# Altium integrated library Analog Devices Data Converters Digital-to-Analog Converters.IntLib: 2231 symbols (part 99 of 181)
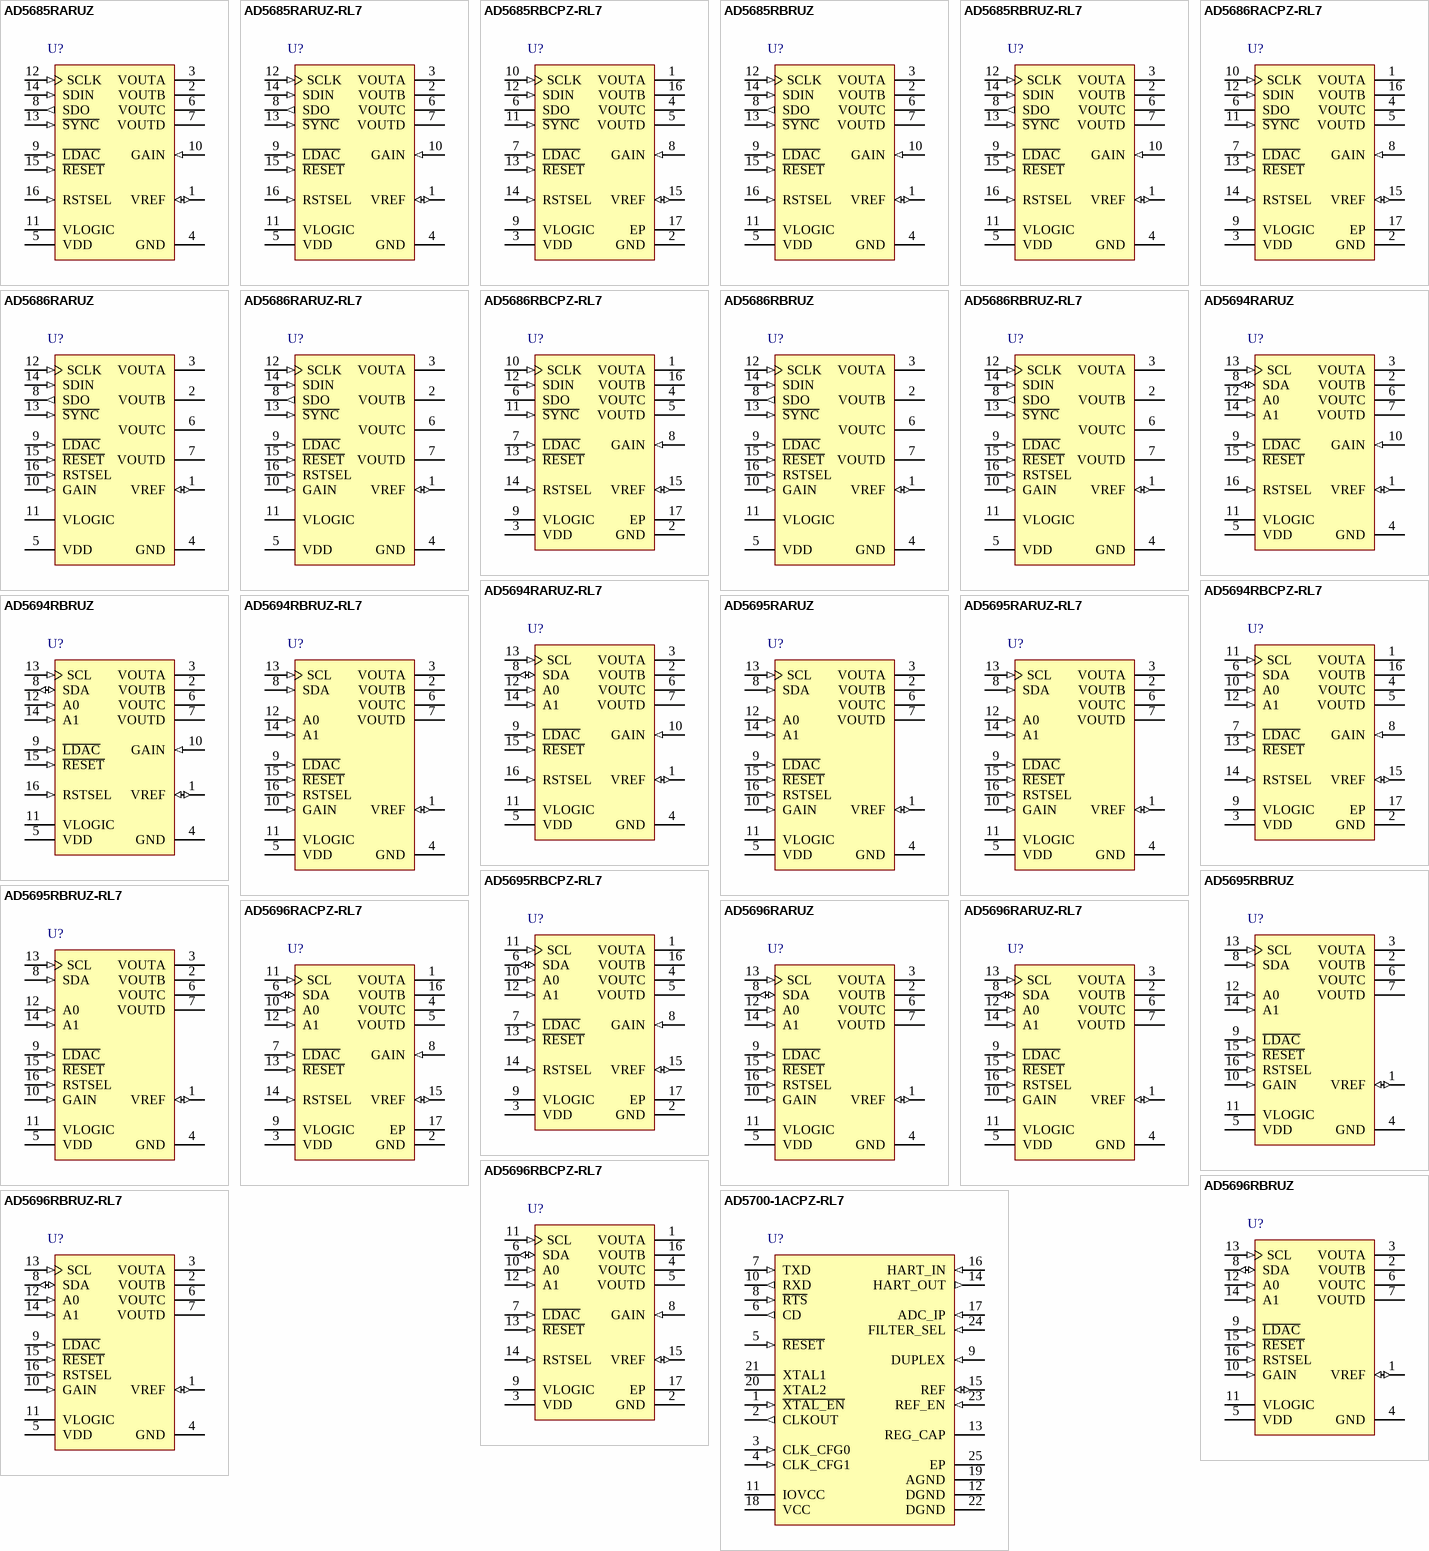
[diagram p212: symbols AD5685RARUZ to AD5700-1ACPZ-RL7]

## AD5685RBCPZ-RL7
designator U?
Quad 14-Bit nanoDAC+ with SPI Interface and 2 ppm/degC On-Chip Reference, -40 to +105 degC, CP-16-22, Pb-Free, Reel; Generic Part Number: AD5685R; Manufacturer: Analog Devices; PartNumber: AD5685RBCPZ-RL7; # DAC Outputs: 4; Max V+: 5.5V; Resolution (Bits): 14; Settling Time: 5µs; Single Supply: Yes; DatasheetVersion: Rev.0; PackageVersion: 111808-A; PackageReference: CP-16-22; PackageDescription: 16-Lead Lead Frame Chip Scale Package [LFCSP_WQ] 3 x 3 mm Body, Very Very Thin Quad; Supplier 1: Digi-Key; Supplier Part Number 1: AD5685RBCPZ-RL7TR-ND; Supplier 2: Digi-Key; Supplier Part Number 2: AD5685RBCPZ-RL7CT-ND; Supplier 3: Digi-Key; Supplier Part Number 3: AD5685RBCPZ-RL7DKR-ND; Supplier 4: Mouser; Supplier Part Number 4: 584-AD5685RBCPZ-R7; Packing: Reel; RoHS: Y; Mounting Technology: Surface Mount; Code_JEDEC: MO-220-WEED; ComponentLink1Description: Manufacturer URL; ComponentLink1URL: http://www.analog.com/en/index.html; ComponentLink2Description: Datasheet; ComponentLink2URL: http://www.analog.com/static/imported-files/data_sheets/AD5686R_AD5685R_AD5684R.pdf; ComponentLink3Description: Package Specification; ComponentLink3URL: http://www.analog.com/static/imported-files/packages/PKG_PDF/LFCSP(CP)/CP-16/CP_16_22.pdf; ComponentLink4Description: Product URL; ComponentLink4URL: http://www.analog.com/en/digital-to-analog-converters/da-converters/ad5685r/products/product.html
footprint CP-16-22_N (QFN, 16-Leads, Body 3x3mm, Pitch 0.5mm, Thermal Pad 1.75x1.75mm, IPC Medium Density)
footprint CP-16-22_L (QFN, 16-Leads, Body 3x3mm, Pitch 0.5mm, Thermal Pad 1.75x1.75mm, IPC High Density)
footprint CP-16-22_M (QFN, 16-Leads, Body 3x3mm, Pitch 0.5mm, Thermal Pad 1.75x1.75mm, IPC Low Density)
pins: 1 VOUTA (hiz) "Analog Output Voltage from DAC A. The output amplifier has rail-to-rail operation.", 2 GND (power) "Ground Reference Point for All Circuitry on the Part.", 3 VDD (power) "?Power Supply Input. These parts can be operated from 2.7 V to 5.5 V, and the supply should bedecoupled with a 10 uF capacitor in parallel with a 0.1 uF capacitor to GND.", 4 VOUTC (hiz) "Analog Output Voltage from DAC C. The output amplifier has rail-to-rail operation.", 5 VOUTD (hiz) "Analog Output Voltage from DAC D. The output amplifier has rail-to-rail operation.", 6 SDO (hiz) "Serial Data Output. Can be used to daisy-chain a number of AD5685R devices together or can be used for readback. The serial data is transferred on the rising edge of SCLK and is valid on the falling edge of the clock.", 7 ~{LDAC} (in) "L\D\A\C\ can be operated in two modes, asynchronously and synchronously. Pulsing this pin low allows any or all DAC registers to be updated if the input registers have new data. This allows all DAC outputs to simultaneously (See Datasheet)", 8 GAIN (in) "?Span Set Pin. When this pin is tied to GND, all four DAC outputs have a span from 0 V to VREF. If thispin is tied to VDD, all four DACs output a span of 0 V to 2 x VREF.", 9 VLOGIC (power) "Digital Power Supply. Voltage ranges from 1.8 V to 5.5 V.", 10 SCLK (in) "Serial Clock Input. Data is clocked into the input shift register on the falling edge of the serial clock input. Data can be transferred at rates of up to 50 MHz.", 11 ~{SYNC} (in) "Active Low Control Input. This is the frame synchronization signal for the input data. When S\Y\N\C\ goes low, data is transferred in on the falling edges of the next 24 clocks.", 12 SDIN (in) "Serial Data Input. This device has a 24-bit input shift register. Data is clocked into the register on the falling edge of the serial clock input.", 13 ~{RESET} (in) "Asynchronous Reset Input. The R\E\S\E\T\ input is falling edge sensitive. When R\E\S\E\T\ is low, all L\D\A\C\ pulses are ignored. When R\E\S\E\T\ is activated, the input register and the DAC register are updated with zero (See Datasheet)", 14 RSTSEL (in) "Power-On Reset Pin. Tying this pin to GND powers up all four DACs to zero scale. Tying this pin to VDD powers up all four DACs to midscale.", 15 VREF (io) "Reference Voltage. The AD5685R have a common reference pin. When using the internal reference, this is the reference output pin. When using an external reference, this is the reference input pin. The default for this pin is (See Datasheet)", 16 VOUTB (hiz) "Analog Output Voltage from DAC B. The output amplifier has rail-to-rail operation.", 17 EP (power) "Exposed Pad. The exposed pad must be tied to GND."

## AD5685RBRUZ
designator U?
Quad 14-Bit nanoDAC+ with SPI Interface and 2 ppm/degC On-Chip Reference, -40 to +105 degC, RU-16, Pb-Free, Tube; Generic Part Number: AD5685R; Manufacturer: Analog Devices; PartNumber: AD5685RBRUZ; # DAC Outputs: 4; Max V+: 5.5V; Resolution (Bits): 14; Settling Time: 5µs; Single Supply: Yes; DatasheetVersion: Rev.0; PackageVersion: Nov-2002; PackageReference: RU-16; PackageDescription: 16-Lead Thin Shrink Small Outline Package [TSSOP]; Supplier 1: Digi-Key; Supplier Part Number 1: AD5685RBRUZ-ND; Supplier 2: Farnell; Supplier Part Number 2: 2112660; Supplier 3: Newark; Supplier Part Number 3: 94T0030; Supplier 4: Mouser; Supplier Part Number 4: 584-AD5685RBRUZ; Packing: Tube; RoHS: Y; Mounting Technology: Surface Mount; Code_JEDEC: MO-153-AB; ComponentLink1Description: Manufacturer URL; ComponentLink1URL: http://www.analog.com/en/index.html; ComponentLink2Description: Datasheet; ComponentLink2URL: http://www.analog.com/static/imported-files/data_sheets/AD5686R_AD5685R_AD5684R.pdf; ComponentLink3Description: Package Specification; ComponentLink3URL: http://www.analog.com/static/imported-files/packages/36244347913743854010197452789RU16.pdf; ComponentLink4Description: Product URL; ComponentLink4URL: http://www.analog.com/en/digital-to-analog-converters/da-converters/ad5685r/products/product.html
footprint RU-16_N (TSOP, 16-Leads, Body 5x4.4mm, Pitch 0.65mm, IPC Medium Density)
footprint RU-16_L (TSOP, 16-Leads, Body 5x4.4mm, Pitch 0.65mm, IPC High Density)
footprint RU-16_M (TSOP, 16-Leads, Body 5x4.4mm, Pitch 0.65mm, IPC Low Density)
pins: 1 VREF (io) "Reference Voltage. The AD5685R have a common reference pin. When using the internal reference, this is the reference output pin. When using an external reference, this is the reference input pin. The default for this pin is (See Datasheet)", 2 VOUTB (hiz) "Analog Output Voltage from DAC B. The output amplifier has rail-to-rail operation.", 3 VOUTA (hiz) "Analog Output Voltage from DAC A. The output amplifier has rail-to-rail operation.", 4 GND (power) "Ground Reference Point for All Circuitry on the Part.", 5 VDD (power) "Power Supply Input. These parts can be operated from 2.7 V to 5.5 V, and the supply should be decoupled with a 10 uF capacitor in parallel with a 0.1 uF capacitor to GND.", 6 VOUTC (hiz) "Analog Output Voltage from DAC C. The output amplifier has rail-to-rail operation.", 7 VOUTD (hiz) "Analog Output Voltage from DAC D. The output amplifier has rail-to-rail operation.", 8 SDO (out) "Serial Data Output. Can be used to daisy-chain a number of AD5686R/AD5685R/AD5684R devices together or can be used for readback. The serial data is transferred on the rising edge of SCLK and is valid on the falling edge of (See Datasheet)", 9 ~{LDAC} (in) "L\D\A\C\ can be operated in two modes, asynchronously and synchronously. Pulsing this pin low allows any or all DAC registers to be updated if the input registers have new data. This allows all DAC outputs to simultaneously (See Datasheet)", 10 GAIN (in) "Span Set Pin. When this pin is tied to GND, all four DAC outputs have a span from 0 V to VREF. If this pin is tied to VDD, all four DACs output a span of 0 V to 2 x VREF.", 11 VLOGIC (power) "Digital Power Supply. Voltage ranges from 1.8 V to 5.5 V.", 12 SCLK (in) "Serial Clock Input. Data is clocked into the input shift register on the falling edge of the serial clock input. Data can be transferred at rates of up to 50 MHz.", 13 ~{SYNC} (in) "Active Low Control Input. This is the frame synchronization signal for the input data. When S\Y\N\C\ goes low, data is transferred in on the falling edges of the next 24 clocks.", 14 SDIN (in) "Serial Data Input. This device has a 24-bit input shift register. Data is clocked into the register on the falling edge of the serial clock input.", 15 ~{RESET} (in) "Asynchronous Reset Input. The R\E\S\E\T\ input is falling edge sensitive. When R\E\S\E\T\ is low, all L\D\A\C\ pulses are ignored. When R\E\S\E\T\ is activated, the input register and the DAC register are updated with zero (See Datasheet)", 16 RSTSEL (in) "Power-On Reset Pin. Tying this pin to GND powers up all four DACs to zero scale. Tying this pin to VDD powers up all four DACs to midscale."

## AD5685RBRUZ-RL7
designator U?
Quad 14-Bit nanoDAC+ with SPI Interface and 2 ppm/degC On-Chip Reference, -40 to +105 degC, RU-16, Pb-Free, Reel; Generic Part Number: AD5685R; Manufacturer: Analog Devices; PartNumber: AD5685RBRUZ-RL7; # DAC Outputs: 4; Max V+: 5.5V; Resolution (Bits): 14; Settling Time: 5µs; Single Supply: Yes; DatasheetVersion: Rev.0; PackageVersion: Nov-2002; PackageReference: RU-16; PackageDescription: 16-Lead Thin Shrink Small Outline Package [TSSOP]; Supplier 1: Digi-Key; Supplier Part Number 1: AD5685RBRUZ-RL7-ND; Supplier 2: Mouser; Supplier Part Number 2: 584-AD5685RBRUZ-R7; Packing: Reel; RoHS: Y; Mounting Technology: Surface Mount; Code_JEDEC: MO-153-AB; ComponentLink1Description: Manufacturer URL; ComponentLink1URL: http://www.analog.com/en/index.html; ComponentLink2Description: Datasheet; ComponentLink2URL: http://www.analog.com/static/imported-files/data_sheets/AD5686R_AD5685R_AD5684R.pdf; ComponentLink3Description: Package Specification; ComponentLink3URL: http://www.analog.com/static/imported-files/packages/36244347913743854010197452789RU16.pdf; ComponentLink4Description: Product URL; ComponentLink4URL: http://www.analog.com/en/digital-to-analog-converters/da-converters/ad5685r/products/product.html
footprint RU-16_N (TSOP, 16-Leads, Body 5x4.4mm, Pitch 0.65mm, IPC Medium Density)
footprint RU-16_L (TSOP, 16-Leads, Body 5x4.4mm, Pitch 0.65mm, IPC High Density)
footprint RU-16_M (TSOP, 16-Leads, Body 5x4.4mm, Pitch 0.65mm, IPC Low Density)
pins: 1 VREF (io) "Reference Voltage. The AD5685R have a common reference pin. When using the internal reference, this is the reference output pin. When using an external reference, this is the reference input pin. The default for this pin is (See Datasheet)", 2 VOUTB (hiz) "Analog Output Voltage from DAC B. The output amplifier has rail-to-rail operation.", 3 VOUTA (hiz) "Analog Output Voltage from DAC A. The output amplifier has rail-to-rail operation.", 4 GND (power) "Ground Reference Point for All Circuitry on the Part.", 5 VDD (power) "Power Supply Input. These parts can be operated from 2.7 V to 5.5 V, and the supply should be decoupled with a 10 uF capacitor in parallel with a 0.1 uF capacitor to GND.", 6 VOUTC (hiz) "Analog Output Voltage from DAC C. The output amplifier has rail-to-rail operation.", 7 VOUTD (hiz) "Analog Output Voltage from DAC D. The output amplifier has rail-to-rail operation.", 8 SDO (out) "Serial Data Output. Can be used to daisy-chain a number of AD5686R/AD5685R/AD5684R devices together or can be used for readback. The serial data is transferred on the rising edge of SCLK and is valid on the falling edge of (See Datasheet)", 9 ~{LDAC} (in) "L\D\A\C\ can be operated in two modes, asynchronously and synchronously. Pulsing this pin low allows any or all DAC registers to be updated if the input registers have new data. This allows all DAC outputs to simultaneously (See Datasheet)", 10 GAIN (in) "Span Set Pin. When this pin is tied to GND, all four DAC outputs have a span from 0 V to VREF. If this pin is tied to VDD, all four DACs output a span of 0 V to 2 x VREF.", 11 VLOGIC (power) "Digital Power Supply. Voltage ranges from 1.8 V to 5.5 V.", 12 SCLK (in) "Serial Clock Input. Data is clocked into the input shift register on the falling edge of the serial clock input. Data can be transferred at rates of up to 50 MHz.", 13 ~{SYNC} (in) "Active Low Control Input. This is the frame synchronization signal for the input data. When S\Y\N\C\ goes low, data is transferred in on the falling edges of the next 24 clocks.", 14 SDIN (in) "Serial Data Input. This device has a 24-bit input shift register. Data is clocked into the register on the falling edge of the serial clock input.", 15 ~{RESET} (in) "Asynchronous Reset Input. The R\E\S\E\T\ input is falling edge sensitive. When R\E\S\E\T\ is low, all L\D\A\C\ pulses are ignored. When R\E\S\E\T\ is activated, the input register and the DAC register are updated with zero (See Datasheet)", 16 RSTSEL (in) "Power-On Reset Pin. Tying this pin to GND powers up all four DACs to zero scale. Tying this pin to VDD powers up all four DACs to midscale."

## AD5686RACPZ-RL7
designator U?
Quad 16-Bit nanoDAC+ with SPI Interface and 2 ppm/degC On-Chip Reference, -40 to +105 degC, CP-16-22, Pb-Free, Reel; Generic Part Number: AD5686R; Manufacturer: Analog Devices; PartNumber: AD5686RACPZ-RL7; # DAC Outputs: 4; Max V+: 5.5V; Resolution (Bits): 16; Settling Time: 5µs; Single Supply: Yes; DatasheetVersion: Rev.0; PackageVersion: 111808-A; PackageReference: CP-16-22; PackageDescription: 16-Lead Lead Frame Chip Scale Package [LFCSP_WQ] 3 x 3 mm Body, Very Very Thin Quad; Supplier 1: Digi-Key; Supplier Part Number 1: AD5686RACPZ-RL7TR-ND; Supplier 2: Digi-Key; Supplier Part Number 2: AD5686RACPZ-RL7CT-ND; Supplier 3: Digi-Key; Supplier Part Number 3: AD5686RACPZ-RL7DKR-ND; Supplier 4: Mouser; Supplier Part Number 4: 584-AD5686RACPZ-R7; Packing: Reel; RoHS: Y; Mounting Technology: Surface Mount; Code_JEDEC: MO-220-WEED; ComponentLink1Description: Manufacturer URL; ComponentLink1URL: http://www.analog.com/en/index.html; ComponentLink2Description: Datasheet; ComponentLink2URL: http://www.analog.com/static/imported-files/data_sheets/AD5686R_AD5685R_AD5684R.pdf; ComponentLink3Description: Package Specification; ComponentLink3URL: http://www.analog.com/static/imported-files/packages/PKG_PDF/LFCSP(CP)/CP-16/CP_16_22.pdf; ComponentLink4Description: Product URL; ComponentLink4URL: http://www.analog.com/en/digital-to-analog-converters/da-converters/ad5686r/products/product.html
footprint CP-16-22_N (QFN, 16-Leads, Body 3x3mm, Pitch 0.5mm, Thermal Pad 1.75x1.75mm, IPC Medium Density)
footprint CP-16-22_L (QFN, 16-Leads, Body 3x3mm, Pitch 0.5mm, Thermal Pad 1.75x1.75mm, IPC High Density)
footprint CP-16-22_M (QFN, 16-Leads, Body 3x3mm, Pitch 0.5mm, Thermal Pad 1.75x1.75mm, IPC Low Density)
pins: 1 VOUTA (hiz) "Analog Output Voltage from DAC A. The output amplifier has rail-to-rail operation.", 2 GND (power) "Ground Reference Point for All Circuitry on the Part.", 3 VDD (power) "Power Supply Input. These parts can be operated from 2.7 V to 5.5 V, and the supply should be decoupled with a 10 uF capacitor in parallel with a 0.1 uF capacitor to GND.", 4 VOUTC (hiz) "Analog Output Voltage from DAC C. The output amplifier has rail-to-rail operation.", 5 VOUTD (hiz) "Analog Output Voltage from DAC D. The output amplifier has rail-to-rail operation.", 6 SDO (hiz) "Serial Data Output. Can be used to daisy-chain a number of AD5686R devices together or can be used for readback. The serial data is transferred on the rising edge of SCLK and is valid on the falling edge of the clock.", 7 ~{LDAC} (in) "L\D\A\C\ can be operated in two modes, asynchronously and synchronously. Pulsing this pin low allows any or all DAC registers to be updated if the input registers have new data. This allows all DAC outputs to simultaneously (See Datasheet)", 8 GAIN (in) "Span Set Pin. When this pin is tied to GND, all four DAC outputs have a span from 0 V to VREF. If this pin is tied to VDD, all four DACs output a span of 0 V to 2 x VREF.", 9 VLOGIC (power) "Digital Power Supply. Voltage ranges from 1.8 V to 5.5 V.", 10 SCLK (in) "Serial Clock Input. Data is clocked into the input shift register on the falling edge of the serial clock input. Data can be transferred at rates of up to 50 MHz.", 11 ~{SYNC} (in) "Active Low Control Input. This is the frame synchronization signal for the input data. When S\Y\N\C\ goes low, data is transferred in on the falling edges of the next 24 clocks.", 12 SDIN (in) "Serial Data Input. This device has a 24-bit input shift register. Data is clocked into the register on the falling edge of the serial clock input.", 13 ~{RESET} (in) "Asynchronous Reset Input. The R\E\S\E\T\ input is falling edge sensitive. When R\E\S\E\T\ is low, all L\D\A\C\ pulses are ignored. When R\E\S\E\T\ is activated, the input register and the DAC register are updated with zero (See Datasheet)", 14 RSTSEL (in) "Power-On Reset Pin. Tying this pin to GND powers up all four DACs to zero scale. Tying this pin to VDD powers up all four DACs to midscale.", 15 VREF (io) "Reference Voltage. The AD5686R have a common reference pin. When using the internal reference, this is the reference output pin. When using an external reference, this is the reference input pin. The default for this pin is (See Datasheet)", 16 VOUTB (hiz) "Analog Output Voltage from DAC B. The output amplifier has rail-to-rail operation.", 17 EP (power) "Exposed Pad. The exposed pad must be tied to GND."

## AD5686RARUZ
designator U?
Quad 16-Bit nanoDAC+ with SPI Interface and 2 ppm/degC On-Chip Reference, -40 to +105 degC, RU-16, Pb-Free, Tube; Generic Part Number: AD5686R; Manufacturer: Analog Devices; PartNumber: AD5686RARUZ; # DAC Outputs: 4; Max V+: 5.5V; Resolution (Bits): 16; Settling Time: 5µs; Single Supply: Yes; DatasheetVersion: Rev.0; PackageVersion: Nov-2002; PackageReference: RU-16; PackageDescription: 16-Lead Thin Shrink Small Outline Package [TSSOP]; Supplier 1: Digi-Key; Supplier Part Number 1: AD5686RARUZ-ND; Supplier 2: Farnell; Supplier Part Number 2: 2112661; Supplier 3: Newark; Supplier Part Number 3: 94T0033; Supplier 4: Mouser; Supplier Part Number 4: 584-AD5686RARUZ; Packing: Tube; RoHS: Y; Mounting Technology: Surface Mount; Code_JEDEC: MO-153-AB; ComponentLink1Description: Manufacturer URL; ComponentLink1URL: http://www.analog.com/en/index.html; ComponentLink2Description: Datasheet; ComponentLink2URL: http://www.analog.com/static/imported-files/data_sheets/AD5686R_AD5685R_AD5684R.pdf; ComponentLink3Description: Package Specification; ComponentLink3URL: http://www.analog.com/static/imported-files/packages/36244347913743854010197452789RU16.pdf; ComponentLink4Description: Product URL; ComponentLink4URL: http://www.analog.com/en/digital-to-analog-converters/da-converters/ad5686r/products/product.html
footprint RU-16_N (TSOP, 16-Leads, Body 5x4.4mm, Pitch 0.65mm, IPC Medium Density)
footprint RU-16_L (TSOP, 16-Leads, Body 5x4.4mm, Pitch 0.65mm, IPC High Density)
footprint RU-16_M (TSOP, 16-Leads, Body 5x4.4mm, Pitch 0.65mm, IPC Low Density)
pins: 1 VREF (io) "Reference Voltage. The AD5686R/AD5685R/AD5684R have a common reference pin. When using the internal reference, this is the reference output pin. When using an external reference, this is the reference input pin. The default (See Datasheet)", 2 VOUTB (hiz) "Analog Output Voltage from DAC B. The output amplifier has rail-to-rail operation.", 3 VOUTA (hiz) "Analog Output Voltage from DAC A. The output amplifier has rail-to-rail operation.", 4 GND (power) "Ground Reference Point for All Circuitry on the Part.", 5 VDD (power) "Power Supply Input. These parts can be operated from 2.7 V to 5.5 V, and the supply should be decoupled with a 10 uF capacitor in parallel with a 0.1 uF capacitor to GND.", 6 VOUTC (hiz) "Analog Output Voltage from DAC C. The output amplifier has rail-to-rail operation.", 7 VOUTD (hiz) "Analog Output Voltage from DAC C. The output amplifier has rail-to-rail operation.", 8 SDO (out) "Serial Data Output. Can be used to daisy-chain a number of AD5686R/AD5685R/AD5684R devices together or can be used for readback. The serial data is transferred on the rising edge of SCLK and is valid on the falling edge of (See Datasheet)", 9 ~{LDAC} (in) "L\D\A\C\ can be operated in two modes, asynchronously and synchronously. Pulsing this pin low allows any or all DAC registers to be updated if the input registers have new data. This allows all DAC outputs to simultaneously (See Datasheet)", 10 GAIN (in) "Span Set Pin. When this pin is tied to GND, all four DAC outputs have a span from 0 V to VREF. If this pin is tied to VDD, all four DACs output a span of 0 V to 2 x VREF.", 11 VLOGIC (power) "Digital Power Supply. Voltage ranges from 1.8 V to 5.5 V.", 12 SCLK (in) "Serial Clock Input. Data is clocked into the input shift register on the falling edge of the serial clock input. Data can be transferred at rates of up to 50 MHz.", 13 ~{SYNC} (in) "Active Low Control Input. This is the frame synchronization signal for the input data. When S\Y\N\C\ goes low, data is transferred in on the falling edges of the next 24 clocks.", 14 SDIN (in) "Serial Data Input. This device has a 24-bit input shift register. Data is clocked into the register on the falling edge of the serial clock input.", 15 ~{RESET} (in) "Asynchronous Reset Input. The R\E\S\E\T\ input is falling edge sensitive. When R\E\S\E\T\ is low, all L\D\A\C\ pulses are ignored. When R\E\S\E\T\ is activated, the input register and the DAC register are updated with zero (See Datasheet)", 16 RSTSEL (in) "Power-On Reset Pin. Tying this pin to GND powers up all four DACs to zero scale. Tying this pin to VDD powers up all four DACs to midscale."

## AD5686RARUZ-RL7
designator U?
Quad 16-Bit nanoDAC+ with SPI Interface and 2 ppm/degC On-Chip Reference, -40 to +105 degC, RU-16, Pb-Free, Reel; Generic Part Number: AD5686R; Manufacturer: Analog Devices; PartNumber: AD5686RARUZ-RL7; # DAC Outputs: 4; Max V+: 5.5V; Resolution (Bits): 16; Settling Time: 5µs; Single Supply: Yes; DatasheetVersion: Rev.0; PackageVersion: Nov-2002; PackageReference: RU-16; PackageDescription: 16-Lead Thin Shrink Small Outline Package [TSSOP]; Supplier 1: Digi-Key; Supplier Part Number 1: AD5686RARUZ-RL7-ND; Supplier 2: Mouser; Supplier Part Number 2: 584-AD5686RARUZ-R7; Packing: Reel; RoHS: Y; Mounting Technology: Surface Mount; Code_JEDEC: MO-153-AB; ComponentLink1Description: Manufacturer URL; ComponentLink1URL: http://www.analog.com/en/index.html; ComponentLink2Description: Datasheet; ComponentLink2URL: http://www.analog.com/static/imported-files/data_sheets/AD5686R_AD5685R_AD5684R.pdf; ComponentLink3Description: Package Specification; ComponentLink3URL: http://www.analog.com/static/imported-files/packages/36244347913743854010197452789RU16.pdf; ComponentLink4Description: Product URL; ComponentLink4URL: http://www.analog.com/en/digital-to-analog-converters/da-converters/ad5686r/products/product.html
footprint RU-16_N (TSOP, 16-Leads, Body 5x4.4mm, Pitch 0.65mm, IPC Medium Density)
footprint RU-16_L (TSOP, 16-Leads, Body 5x4.4mm, Pitch 0.65mm, IPC High Density)
footprint RU-16_M (TSOP, 16-Leads, Body 5x4.4mm, Pitch 0.65mm, IPC Low Density)
pins: 1 VREF (io) "Reference Voltage. The AD5686R/AD5685R/AD5684R have a common reference pin. When using the internal reference, this is the reference output pin. When using an external reference, this is the reference input pin. The default (See Datasheet)", 2 VOUTB (hiz) "Analog Output Voltage from DAC B. The output amplifier has rail-to-rail operation.", 3 VOUTA (hiz) "Analog Output Voltage from DAC A. The output amplifier has rail-to-rail operation.", 4 GND (power) "Ground Reference Point for All Circuitry on the Part.", 5 VDD (power) "Power Supply Input. These parts can be operated from 2.7 V to 5.5 V, and the supply should be decoupled with a 10 uF capacitor in parallel with a 0.1 uF capacitor to GND.", 6 VOUTC (hiz) "Analog Output Voltage from DAC C. The output amplifier has rail-to-rail operation.", 7 VOUTD (hiz) "Analog Output Voltage from DAC C. The output amplifier has rail-to-rail operation.", 8 SDO (out) "Serial Data Output. Can be used to daisy-chain a number of AD5686R/AD5685R/AD5684R devices together or can be used for readback. The serial data is transferred on the rising edge of SCLK and is valid on the falling edge of (See Datasheet)", 9 ~{LDAC} (in) "L\D\A\C\ can be operated in two modes, asynchronously and synchronously. Pulsing this pin low allows any or all DAC registers to be updated if the input registers have new data. This allows all DAC outputs to simultaneously (See Datasheet)", 10 GAIN (in) "Span Set Pin. When this pin is tied to GND, all four DAC outputs have a span from 0 V to VREF. If this pin is tied to VDD, all four DACs output a span of 0 V to 2 x VREF.", 11 VLOGIC (power) "Digital Power Supply. Voltage ranges from 1.8 V to 5.5 V.", 12 SCLK (in) "Serial Clock Input. Data is clocked into the input shift register on the falling edge of the serial clock input. Data can be transferred at rates of up to 50 MHz.", 13 ~{SYNC} (in) "Active Low Control Input. This is the frame synchronization signal for the input data. When S\Y\N\C\ goes low, data is transferred in on the falling edges of the next 24 clocks.", 14 SDIN (in) "Serial Data Input. This device has a 24-bit input shift register. Data is clocked into the register on the falling edge of the serial clock input.", 15 ~{RESET} (in) "Asynchronous Reset Input. The R\E\S\E\T\ input is falling edge sensitive. When R\E\S\E\T\ is low, all L\D\A\C\ pulses are ignored. When R\E\S\E\T\ is activated, the input register and the DAC register are updated with zero (See Datasheet)", 16 RSTSEL (in) "Power-On Reset Pin. Tying this pin to GND powers up all four DACs to zero scale. Tying this pin to VDD powers up all four DACs to midscale."

## AD5686RBCPZ-RL7
designator U?
Quad 16-Bit nanoDAC+ with SPI Interface and 2 ppm/degC On-Chip Reference, -40 to +105 degC, CP-16-22, Pb-Free, Reel; Generic Part Number: AD5686R; Manufacturer: Analog Devices; PartNumber: AD5686RBCPZ-RL7; # DAC Outputs: 4; Max V+: 5.5V; Resolution (Bits): 16; Settling Time: 5µs; Single Supply: Yes; DatasheetVersion: Rev.0; PackageVersion: 111808-A; PackageReference: CP-16-22; PackageDescription: 16-Lead Lead Frame Chip Scale Package [LFCSP_WQ] 3 x 3 mm Body, Very Very Thin Quad; Supplier 1: Digi-Key; Supplier Part Number 1: AD5686RBCPZ-RL7TR-ND; Supplier 2: Digi-Key; Supplier Part Number 2: AD5686RBCPZ-RL7CT-ND; Supplier 3: Digi-Key; Supplier Part Number 3: AD5686RBCPZ-RL7DKR-ND; Supplier 4: Mouser; Supplier Part Number 4: 584-AD5686RBCPZ-R7; Packing: Reel; RoHS: Y; Mounting Technology: Surface Mount; Code_JEDEC: MO-220-WEED; ComponentLink1Description: Manufacturer URL; ComponentLink1URL: http://www.analog.com/en/index.html; ComponentLink2Description: Datasheet; ComponentLink2URL: http://www.analog.com/static/imported-files/data_sheets/AD5686R_AD5685R_AD5684R.pdf; ComponentLink3Description: Package Specification; ComponentLink3URL: http://www.analog.com/static/imported-files/packages/PKG_PDF/LFCSP(CP)/CP-16/CP_16_22.pdf; ComponentLink4Description: Product URL; ComponentLink4URL: http://www.analog.com/en/digital-to-analog-converters/da-converters/ad5686r/products/product.html
footprint CP-16-22_N (QFN, 16-Leads, Body 3x3mm, Pitch 0.5mm, Thermal Pad 1.75x1.75mm, IPC Medium Density)
footprint CP-16-22_L (QFN, 16-Leads, Body 3x3mm, Pitch 0.5mm, Thermal Pad 1.75x1.75mm, IPC High Density)
footprint CP-16-22_M (QFN, 16-Leads, Body 3x3mm, Pitch 0.5mm, Thermal Pad 1.75x1.75mm, IPC Low Density)
pins: 1 VOUTA (hiz) "Analog Output Voltage from DAC A. The output amplifier has rail-to-rail operation.", 2 GND (power) "Ground Reference Point for All Circuitry on the Part.", 3 VDD (power) "Power Supply Input. These parts can be operated from 2.7 V to 5.5 V, and the supply should be decoupled with a 10 uF capacitor in parallel with a 0.1 uF capacitor to GND.", 4 VOUTC (hiz) "Analog Output Voltage from DAC C. The output amplifier has rail-to-rail operation.", 5 VOUTD (hiz) "Analog Output Voltage from DAC D. The output amplifier has rail-to-rail operation.", 6 SDO (hiz) "Serial Data Output. Can be used to daisy-chain a number of AD5686R devices together or can be used for readback. The serial data is transferred on the rising edge of SCLK and is valid on the falling edge of the clock.", 7 ~{LDAC} (in) "L\D\A\C\ can be operated in two modes, asynchronously and synchronously. Pulsing this pin low allows any or all DAC registers to be updated if the input registers have new data. This allows all DAC outputs to simultaneously (See Datasheet)", 8 GAIN (in) "Span Set Pin. When this pin is tied to GND, all four DAC outputs have a span from 0 V to VREF. If this pin is tied to VDD, all four DACs output a span of 0 V to 2 x VREF.", 9 VLOGIC (power) "Digital Power Supply. Voltage ranges from 1.8 V to 5.5 V.", 10 SCLK (in) "Serial Clock Input. Data is clocked into the input shift register on the falling edge of the serial clock input. Data can be transferred at rates of up to 50 MHz.", 11 ~{SYNC} (in) "Active Low Control Input. This is the frame synchronization signal for the input data. When S\Y\N\C\ goes low, data is transferred in on the falling edges of the next 24 clocks.", 12 SDIN (in) "Serial Data Input. This device has a 24-bit input shift register. Data is clocked into the register on the falling edge of the serial clock input.", 13 ~{RESET} (in) "Asynchronous Reset Input. The R\E\S\E\T\ input is falling edge sensitive. When R\E\S\E\T\ is low, all L\D\A\C\ pulses are ignored. When R\E\S\E\T\ is activated, the input register and the DAC register are updated with zero (See Datasheet)", 14 RSTSEL (in) "Power-On Reset Pin. Tying this pin to GND powers up all four DACs to zero scale. Tying this pin to VDD powers up all four DACs to midscale.", 15 VREF (io) "Reference Voltage. The AD5686R have a common reference pin. When using the internal reference, this is the reference output pin. When using an external reference, this is the reference input pin. The default for this pin is (See Datasheet)", 16 VOUTB (hiz) "Analog Output Voltage from DAC B. The output amplifier has rail-to-rail operation.", 17 EP (power) "Exposed Pad. The exposed pad must be tied to GND."

## AD5686RBRUZ
designator U?
Quad 16-Bit nanoDAC+ with SPI Interface and 2 ppm/degC On-Chip Reference, -40 to +105 degC, RU-16, Pb-Free, Tube; Generic Part Number: AD5686R; Manufacturer: Analog Devices; PartNumber: AD5686RBRUZ; # DAC Outputs: 4; Max V+: 5.5V; Resolution (Bits): 16; Settling Time: 5µs; Single Supply: Yes; DatasheetVersion: Rev.0; PackageVersion: Nov-2002; PackageReference: RU-16; PackageDescription: 16-Lead Thin Shrink Small Outline Package [TSSOP]; Supplier 1: Digi-Key; Supplier Part Number 1: AD5686RBRUZ-ND; Supplier 2: Farnell; Supplier Part Number 2: 2112662; Supplier 3: Newark; Supplier Part Number 3: 94T0036; Supplier 4: Mouser; Supplier Part Number 4: 584-AD5686RBRUZ; Packing: Tube; RoHS: Y; Mounting Technology: Surface Mount; Code_JEDEC: MO-153-AB; ComponentLink1Description: Manufacturer URL; ComponentLink1URL: http://www.analog.com/en/index.html; ComponentLink2Description: Datasheet; ComponentLink2URL: http://www.analog.com/static/imported-files/data_sheets/AD5686R_AD5685R_AD5684R.pdf; ComponentLink3Description: Package Specification; ComponentLink3URL: http://www.analog.com/static/imported-files/packages/36244347913743854010197452789RU16.pdf; ComponentLink4Description: Product URL; ComponentLink4URL: http://www.analog.com/en/digital-to-analog-converters/da-converters/ad5686r/products/product.html
footprint RU-16_N (TSOP, 16-Leads, Body 5x4.4mm, Pitch 0.65mm, IPC Medium Density)
footprint RU-16_L (TSOP, 16-Leads, Body 5x4.4mm, Pitch 0.65mm, IPC High Density)
footprint RU-16_M (TSOP, 16-Leads, Body 5x4.4mm, Pitch 0.65mm, IPC Low Density)
pins: 1 VREF (io) "Reference Voltage. The AD5686R/AD5685R/AD5684R have a common reference pin. When using the internal reference, this is the reference output pin. When using an external reference, this is the reference input pin. The default (See Datasheet)", 2 VOUTB (hiz) "Analog Output Voltage from DAC B. The output amplifier has rail-to-rail operation.", 3 VOUTA (hiz) "Analog Output Voltage from DAC A. The output amplifier has rail-to-rail operation.", 4 GND (power) "Ground Reference Point for All Circuitry on the Part.", 5 VDD (power) "Power Supply Input. These parts can be operated from 2.7 V to 5.5 V, and the supply should be decoupled with a 10 uF capacitor in parallel with a 0.1 uF capacitor to GND.", 6 VOUTC (hiz) "Analog Output Voltage from DAC C. The output amplifier has rail-to-rail operation.", 7 VOUTD (hiz) "Analog Output Voltage from DAC C. The output amplifier has rail-to-rail operation.", 8 SDO (out) "Serial Data Output. Can be used to daisy-chain a number of AD5686R/AD5685R/AD5684R devices together or can be used for readback. The serial data is transferred on the rising edge of SCLK and is valid on the falling edge of (See Datasheet)", 9 ~{LDAC} (in) "L\D\A\C\ can be operated in two modes, asynchronously and synchronously. Pulsing this pin low allows any or all DAC registers to be updated if the input registers have new data. This allows all DAC outputs to simultaneously (See Datasheet)", 10 GAIN (in) "Span Set Pin. When this pin is tied to GND, all four DAC outputs have a span from 0 V to VREF. If this pin is tied to VDD, all four DACs output a span of 0 V to 2 x VREF.", 11 VLOGIC (power) "Digital Power Supply. Voltage ranges from 1.8 V to 5.5 V.", 12 SCLK (in) "Serial Clock Input. Data is clocked into the input shift register on the falling edge of the serial clock input. Data can be transferred at rates of up to 50 MHz.", 13 ~{SYNC} (in) "Active Low Control Input. This is the frame synchronization signal for the input data. When S\Y\N\C\ goes low, data is transferred in on the falling edges of the next 24 clocks.", 14 SDIN (in) "Serial Data Input. This device has a 24-bit input shift register. Data is clocked into the register on the falling edge of the serial clock input.", 15 ~{RESET} (in) "Asynchronous Reset Input. The R\E\S\E\T\ input is falling edge sensitive. When R\E\S\E\T\ is low, all L\D\A\C\ pulses are ignored. When R\E\S\E\T\ is activated, the input register and the DAC register are updated with zero (See Datasheet)", 16 RSTSEL (in) "Power-On Reset Pin. Tying this pin to GND powers up all four DACs to zero scale. Tying this pin to VDD powers up all four DACs to midscale."

## AD5686RBRUZ-RL7
designator U?
Quad 16-Bit nanoDAC+ with SPI Interface and 2 ppm/degC On-Chip Reference, -40 to +105 degC, RU-16, Pb-Free, Reel; Generic Part Number: AD5686R; Manufacturer: Analog Devices; PartNumber: AD5686RBRUZ-RL7; # DAC Outputs: 4; Max V+: 5.5V; Resolution (Bits): 16; Settling Time: 5µs; Single Supply: Yes; DatasheetVersion: Rev.0; PackageVersion: Nov-2002; PackageReference: RU-16; PackageDescription: 16-Lead Thin Shrink Small Outline Package [TSSOP]; Supplier 1: Digi-Key; Supplier Part Number 1: AD5686RBRUZ-RL7-ND; Supplier 2: Mouser; Supplier Part Number 2: 584-AD5686RBRUZ-R7; Packing: Reel; RoHS: Y; Mounting Technology: Surface Mount; Code_JEDEC: MO-153-AB; ComponentLink1Description: Manufacturer URL; ComponentLink1URL: http://www.analog.com/en/index.html; ComponentLink2Description: Datasheet; ComponentLink2URL: http://www.analog.com/static/imported-files/data_sheets/AD5686R_AD5685R_AD5684R.pdf; ComponentLink3Description: Package Specification; ComponentLink3URL: http://www.analog.com/static/imported-files/packages/36244347913743854010197452789RU16.pdf; ComponentLink4Description: Product URL; ComponentLink4URL: http://www.analog.com/en/digital-to-analog-converters/da-converters/ad5686r/products/product.html
footprint RU-16_N (TSOP, 16-Leads, Body 5x4.4mm, Pitch 0.65mm, IPC Medium Density)
footprint RU-16_L (TSOP, 16-Leads, Body 5x4.4mm, Pitch 0.65mm, IPC High Density)
footprint RU-16_M (TSOP, 16-Leads, Body 5x4.4mm, Pitch 0.65mm, IPC Low Density)
pins: 1 VREF (io) "Reference Voltage. The AD5686R/AD5685R/AD5684R have a common reference pin. When using the internal reference, this is the reference output pin. When using an external reference, this is the reference input pin. The default (See Datasheet)", 2 VOUTB (hiz) "Analog Output Voltage from DAC B. The output amplifier has rail-to-rail operation.", 3 VOUTA (hiz) "Analog Output Voltage from DAC A. The output amplifier has rail-to-rail operation.", 4 GND (power) "Ground Reference Point for All Circuitry on the Part.", 5 VDD (power) "Power Supply Input. These parts can be operated from 2.7 V to 5.5 V, and the supply should be decoupled with a 10 uF capacitor in parallel with a 0.1 uF capacitor to GND.", 6 VOUTC (hiz) "Analog Output Voltage from DAC C. The output amplifier has rail-to-rail operation.", 7 VOUTD (hiz) "Analog Output Voltage from DAC C. The output amplifier has rail-to-rail operation.", 8 SDO (out) "Serial Data Output. Can be used to daisy-chain a number of AD5686R/AD5685R/AD5684R devices together or can be used for readback. The serial data is transferred on the rising edge of SCLK and is valid on the falling edge of (See Datasheet)", 9 ~{LDAC} (in) "L\D\A\C\ can be operated in two modes, asynchronously and synchronously. Pulsing this pin low allows any or all DAC registers to be updated if the input registers have new data. This allows all DAC outputs to simultaneously (See Datasheet)", 10 GAIN (in) "Span Set Pin. When this pin is tied to GND, all four DAC outputs have a span from 0 V to VREF. If this pin is tied to VDD, all four DACs output a span of 0 V to 2 x VREF.", 11 VLOGIC (power) "Digital Power Supply. Voltage ranges from 1.8 V to 5.5 V.", 12 SCLK (in) "Serial Clock Input. Data is clocked into the input shift register on the falling edge of the serial clock input. Data can be transferred at rates of up to 50 MHz.", 13 ~{SYNC} (in) "Active Low Control Input. This is the frame synchronization signal for the input data. When S\Y\N\C\ goes low, data is transferred in on the falling edges of the next 24 clocks.", 14 SDIN (in) "Serial Data Input. This device has a 24-bit input shift register. Data is clocked into the register on the falling edge of the serial clock input.", 15 ~{RESET} (in) "Asynchronous Reset Input. The R\E\S\E\T\ input is falling edge sensitive. When R\E\S\E\T\ is low, all L\D\A\C\ pulses are ignored. When R\E\S\E\T\ is activated, the input register and the DAC register are updated with zero (See Datasheet)", 16 RSTSEL (in) "Power-On Reset Pin. Tying this pin to GND powers up all four DACs to zero scale. Tying this pin to VDD powers up all four DACs to midscale."

## AD5694RARUZ
designator U?
Quad 12-Bit nanoDAC+ with I2C Interface and 2 ppm/degC On-Chip Reference, -40 to +105 degC, RU-16, Pb-Free, Tube; Generic Part Number: AD5694R; Manufacturer: Analog Devices; PartNumber: AD5694RARUZ; # DAC Outputs: 4; Max V+: 5.5V; Resolution (Bits): 12; Settling Time: 5µs; Single Supply: Yes; DatasheetVersion: Rev.0; PackageVersion: Nov-2002; PackageReference: RU-16; PackageDescription: 16-Lead Thin Shrink Small Outline Package [TSSOP]; Supplier 1: Digi-Key; Supplier Part Number 1: AD5694RARUZ-ND; Supplier 2: Farnell; Supplier Part Number 2: 2112663; Supplier 3: Newark; Supplier Part Number 3: 94T0038; Supplier 4: Mouser; Supplier Part Number 4: 584-AD5694RARUZ; Packing: Tube; RoHS: Y; Mounting Technology: Surface Mount; Code_JEDEC: MO-153-AB; ComponentLink1Description: Manufacturer URL; ComponentLink1URL: http://www.analog.com/en/index.html; ComponentLink2Description: Datasheet; ComponentLink2URL: http://www.analog.com/static/imported-files/data_sheets/AD5696R_AD5695R_AD5694R.pdf; ComponentLink3Description: Package Specification; ComponentLink3URL: http://www.analog.com/static/imported-files/packages/36244347913743854010197452789RU16.pdf; ComponentLink4Description: Product URL; ComponentLink4URL: http://www.analog.com/en/digital-to-analog-converters/da-converters/ad5694r/products/product.html
footprint RU-16_N (TSOP, 16-Leads, Body 5x4.4mm, Pitch 0.65mm, IPC Medium Density)
footprint RU-16_L (TSOP, 16-Leads, Body 5x4.4mm, Pitch 0.65mm, IPC High Density)
footprint RU-16_M (TSOP, 16-Leads, Body 5x4.4mm, Pitch 0.65mm, IPC Low Density)
pins: 1 VREF (io) "Reference Voltage. The AD5694R have a common reference pin. When using the internal reference, this is the reference output pin. When using an external reference, this is the reference input pin. The default for this pin is (See Datasheet)", 2 VOUTB (hiz) "Analog Output Voltage from DAC B. The output amplifier has rail-to-rail operation.", 3 VOUTA (hiz) "Analog Output Voltage from DAC A. The output amplifier has rail-to-rail operation.", 4 GND (power) "Ground Reference Point for All Circuitry on the Part.", 5 VDD (power) "Power Supply Input. These parts can be operated from 2.7 V to 5.5 V, and the supply should be decoupled with a 10 uF capacitor in parallel with a 0.1 uF capacitor to GND.", 6 VOUTC (hiz) "Analog Output Voltage from DAC C. The output amplifier has rail-to-rail operation.", 7 VOUTD (hiz) "Analog Output Voltage from DAC D. The output amplifier has rail-to-rail operation.", 8 SDA (io) "Serial Data Input. This pin is used in conjunction with the SCL line to clock data into or out of the 24-bit input shift register. SDA is a bidirectional, open-drain data line that should be pulled to the supply with an (See Datasheet)", 9 ~{LDAC} (in) "L\D\A\C\ can be operated in two modes, asynchronously and synchronously. Pulsing this pin low allows any or all DAC registers to be updated if the input registers have new data. This allows all DAC outputs to simultaneously (See Datasheet)", 10 GAIN (in) "Span Set Pin. When this pin is tied to GND, all four DAC outputs have a span from 0 V to VREF. If this pin is tied to VDD, all four DACs output a span of 0 V to 2 x VREF.", 11 VLOGIC (power) "Digital Power Supply. Voltage ranges from 1.8 V to 5.5 V.", 12 A0 (in) "Address Input. Sets the first LSB of the 7-bit slave address.", 13 SCL (in) "Serial Clock Line. This is used in conjunction with the SDA line to clock data into or out of the 24-bit input register.", 14 A1 (in) "Address Input. Sets the second LSB of the 7-bit slave address.", 15 ~{RESET} (in) "Asynchronous Reset Input. The R\E\S\E\T\ input is falling edge sensitive. When R\E\S\E\T\ is low, all L\D\A\C\ pulses are ignored. When R\E\S\E\T\ is activated, the input register and the DAC register are updated with zero (See Datasheet)", 16 RSTSEL (in) "Power-On Reset Pin. Tying this pin to GND powers up all four DACs to zero scale. Tying this pin to VDD powers up all four DACs to midscale."

## AD5694RARUZ-RL7
designator U?
Quad 12-Bit nanoDAC+ with I2C Interface and 2 ppm/degC On-Chip Reference, -40 to +105 degC, RU-16, Pb-Free, Reel; Generic Part Number: AD5694R; Manufacturer: Analog Devices; PartNumber: AD5694RARUZ-RL7; # DAC Outputs: 4; Max V+: 5.5V; Resolution (Bits): 12; Settling Time: 5µs; Single Supply: Yes; DatasheetVersion: Rev.0; PackageVersion: Nov-2002; PackageReference: RU-16; PackageDescription: 16-Lead Thin Shrink Small Outline Package [TSSOP]; Supplier 1: Digi-Key; Supplier Part Number 1: AD5694RARUZ-RL7-ND; Supplier 2: Mouser; Supplier Part Number 2: 584-AD5694RARUZ-R7; Packing: Reel; RoHS: Y; Mounting Technology: Surface Mount; Code_JEDEC: MO-153-AB; ComponentLink1Description: Manufacturer URL; ComponentLink1URL: http://www.analog.com/en/index.html; ComponentLink2Description: Datasheet; ComponentLink2URL: http://www.analog.com/static/imported-files/data_sheets/AD5696R_AD5695R_AD5694R.pdf; ComponentLink3Description: Package Specification; ComponentLink3URL: http://www.analog.com/static/imported-files/packages/36244347913743854010197452789RU16.pdf; ComponentLink4Description: Product URL; ComponentLink4URL: http://www.analog.com/en/digital-to-analog-converters/da-converters/ad5694r/products/product.html
footprint RU-16_N (TSOP, 16-Leads, Body 5x4.4mm, Pitch 0.65mm, IPC Medium Density)
footprint RU-16_L (TSOP, 16-Leads, Body 5x4.4mm, Pitch 0.65mm, IPC High Density)
footprint RU-16_M (TSOP, 16-Leads, Body 5x4.4mm, Pitch 0.65mm, IPC Low Density)
pins: 1 VREF (io) "Reference Voltage. The AD5694R have a common reference pin. When using the internal reference, this is the reference output pin. When using an external reference, this is the reference input pin. The default for this pin is (See Datasheet)", 2 VOUTB (hiz) "Analog Output Voltage from DAC B. The output amplifier has rail-to-rail operation.", 3 VOUTA (hiz) "Analog Output Voltage from DAC A. The output amplifier has rail-to-rail operation.", 4 GND (power) "Ground Reference Point for All Circuitry on the Part.", 5 VDD (power) "Power Supply Input. These parts can be operated from 2.7 V to 5.5 V, and the supply should be decoupled with a 10 uF capacitor in parallel with a 0.1 uF capacitor to GND.", 6 VOUTC (hiz) "Analog Output Voltage from DAC C. The output amplifier has rail-to-rail operation.", 7 VOUTD (hiz) "Analog Output Voltage from DAC D. The output amplifier has rail-to-rail operation.", 8 SDA (io) "Serial Data Input. This pin is used in conjunction with the SCL line to clock data into or out of the 24-bit input shift register. SDA is a bidirectional, open-drain data line that should be pulled to the supply with an (See Datasheet)", 9 ~{LDAC} (in) "L\D\A\C\ can be operated in two modes, asynchronously and synchronously. Pulsing this pin low allows any or all DAC registers to be updated if the input registers have new data. This allows all DAC outputs to simultaneously (See Datasheet)", 10 GAIN (in) "Span Set Pin. When this pin is tied to GND, all four DAC outputs have a span from 0 V to VREF. If this pin is tied to VDD, all four DACs output a span of 0 V to 2 x VREF.", 11 VLOGIC (power) "Digital Power Supply. Voltage ranges from 1.8 V to 5.5 V.", 12 A0 (in) "Address Input. Sets the first LSB of the 7-bit slave address.", 13 SCL (in) "Serial Clock Line. This is used in conjunction with the SDA line to clock data into or out of the 24-bit input register.", 14 A1 (in) "Address Input. Sets the second LSB of the 7-bit slave address.", 15 ~{RESET} (in) "Asynchronous Reset Input. The R\E\S\E\T\ input is falling edge sensitive. When R\E\S\E\T\ is low, all L\D\A\C\ pulses are ignored. When R\E\S\E\T\ is activated, the input register and the DAC register are updated with zero (See Datasheet)", 16 RSTSEL (in) "Power-On Reset Pin. Tying this pin to GND powers up all four DACs to zero scale. Tying this pin to VDD powers up all four DACs to midscale."